# Altium footprint library Connector-ZH-1.5.PcbLib: 6 footprints
Each footprint in its own frame and in the unit in brackets; x right, y up, seen from the top. Pads: shape width x height; smd on the part's side, far side on the other; paste and mask are expansions set on the pad; w line width, h text height; cw(c..) or ccw(c..) is an arc to the next point about the centre after c.
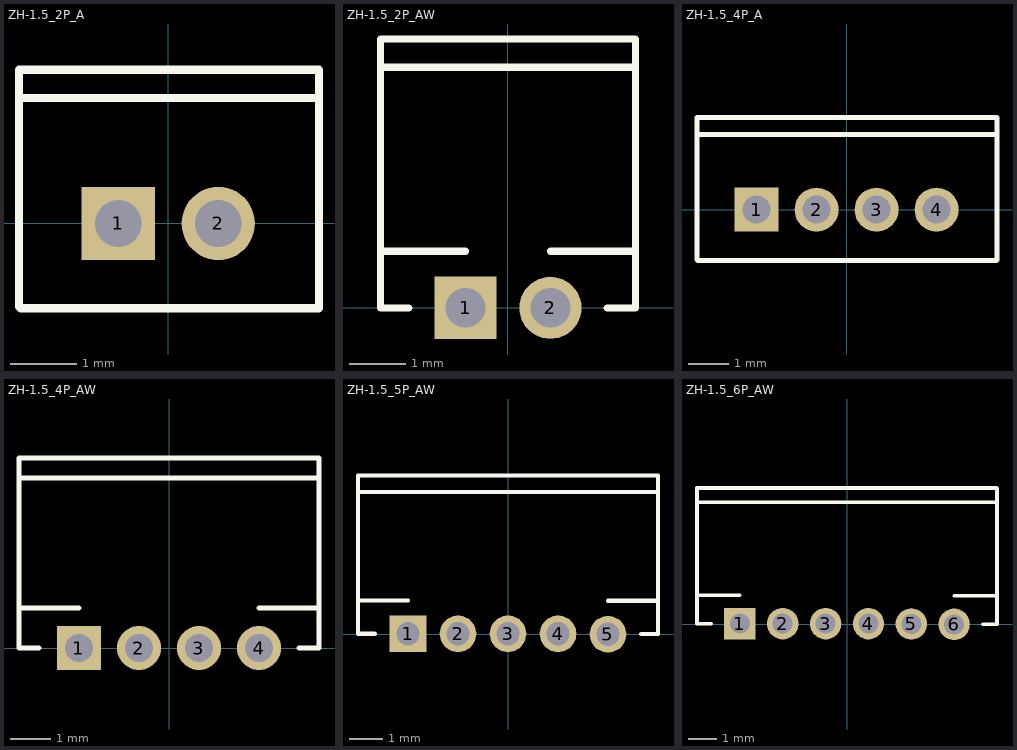
[diagram p0: the footprints below, top view; thin cyan lines are the x and y axes]

## ZH-1.5_2P_A [mm]
pads (2):
  rect 1.1x1.1 hole 0.7: 1(-0.75,0)
  round 1.1 hole 0.7: 2(0.75,0)
Top Overlay:
  lines w0.127: -2.222,1.882 2.257,1.882 ; 2.252,2.304 -2.24,2.304 -2.24,-1.246 -2.216,-1.27 2.254,-1.27 ; 2.26,-1.257 2.26,2.304

## ZH-1.5_2P_AW [mm]
pads (2):
  rect 1.1x1.1 hole 0.7: 1(-0.75,0)
  round 1.1 hole 0.7: 2(0.75,0)
Top Overlay:
  lines w0.127: -2.25,1 -0.75,1 ; -2.25,4.5 -2.25,0 -1.75,0 ; 0.75,1 2.25,1 ; 1.75,0 2.25,0 2.25,4.5 ; 2.224,4.25 -2.25,4.25 -2.25,4.75 2.244,4.75 ; 2.25,4.25 2.25,4.75

## ZH-1.5_4P_A [mm]
pads (4):
  rect 1.1x1.1 hole 0.7: 1(-2.25,0)
  round 1.1 hole 0.7: 2(-0.75,0) 3(0.75,0) 4(2.25,0)
Top Overlay:
  lines w0.127: -3.722,1.882 3.721,1.882 ; 3.745,-1.27 -3.716,-1.27 -3.74,-1.246 -3.74,2.304 3.76,2.304 3.76,-1.257

## ZH-1.5_4P_AW [mm]
pads (4):
  rect 1.1x1.1 hole 0.7: 1(-2.25,0)
  round 1.1 hole 0.7: 2(-0.75,0) 3(0.75,0) 4(2.25,0)
Top Overlay:
  lines w0.127: -3.75,1 -2.25,1 ; -3.75,4.5 -3.75,0 -3.25,0 ; 2.25,1 3.75,1 ; 3.25,0 3.75,0 3.75,4.5 ; -3.75,4.25 -3.75,4.75 3.75,4.75 3.75,4.25 -3.75,4.25

## ZH-1.5_5P_AW [mm]
pads (5):
  rect 1.1x1.1 hole 0.7: 1(-2.999,0.006)
  round 1.1 hole 0.7: 2(-1.499,0.006) 3(0.001,0.006) 4(1.501,0.006) 5(2.999,-0.006)
Top Overlay:
  lines w0.127: -4.499,1.006 -2.999,1.006 ; -4.499,4.506 -4.499,0.006 -3.999,0.006 ; 2.999,0.999 4.499,0.999 ; 3.999,-0.001 4.499,-0.001 ; 4.499,0.009 4.499,4.509 ; -4.499,4.256 -4.499,4.756 4.499,4.756 4.499,4.256 -4.499,4.256

## ZH-1.5_6P_AW [mm]
pads (6):
  rect 1.1x1.1 hole 0.7: 1(-3.749,0.011)
  round 1.1 hole 0.7: 2(-2.249,0.011) 3(-0.749,0.011) 4(0.751,0.011) 5(2.25,0.002) 6(3.749,-0.011)
Top Overlay:
  lines w0.127: -5.249,1.011 -3.749,1.011 ; -5.249,4.511 -5.249,0.011 -4.749,0.011 ; 3.748,0.99 5.248,0.99 ; 4.748,-0.01 5.248,-0.01 ; 5.248,0.001 5.248,4.501 ; 5.248,4.248 5.248,4.748 ; -5.249,4.261 -5.249,4.761 5.242,4.761 5.242,4.261 -5.249,4.261